# Altium integrated library HyTechDevices.Library.IntLib: 220 symbols (part 2 of 3)
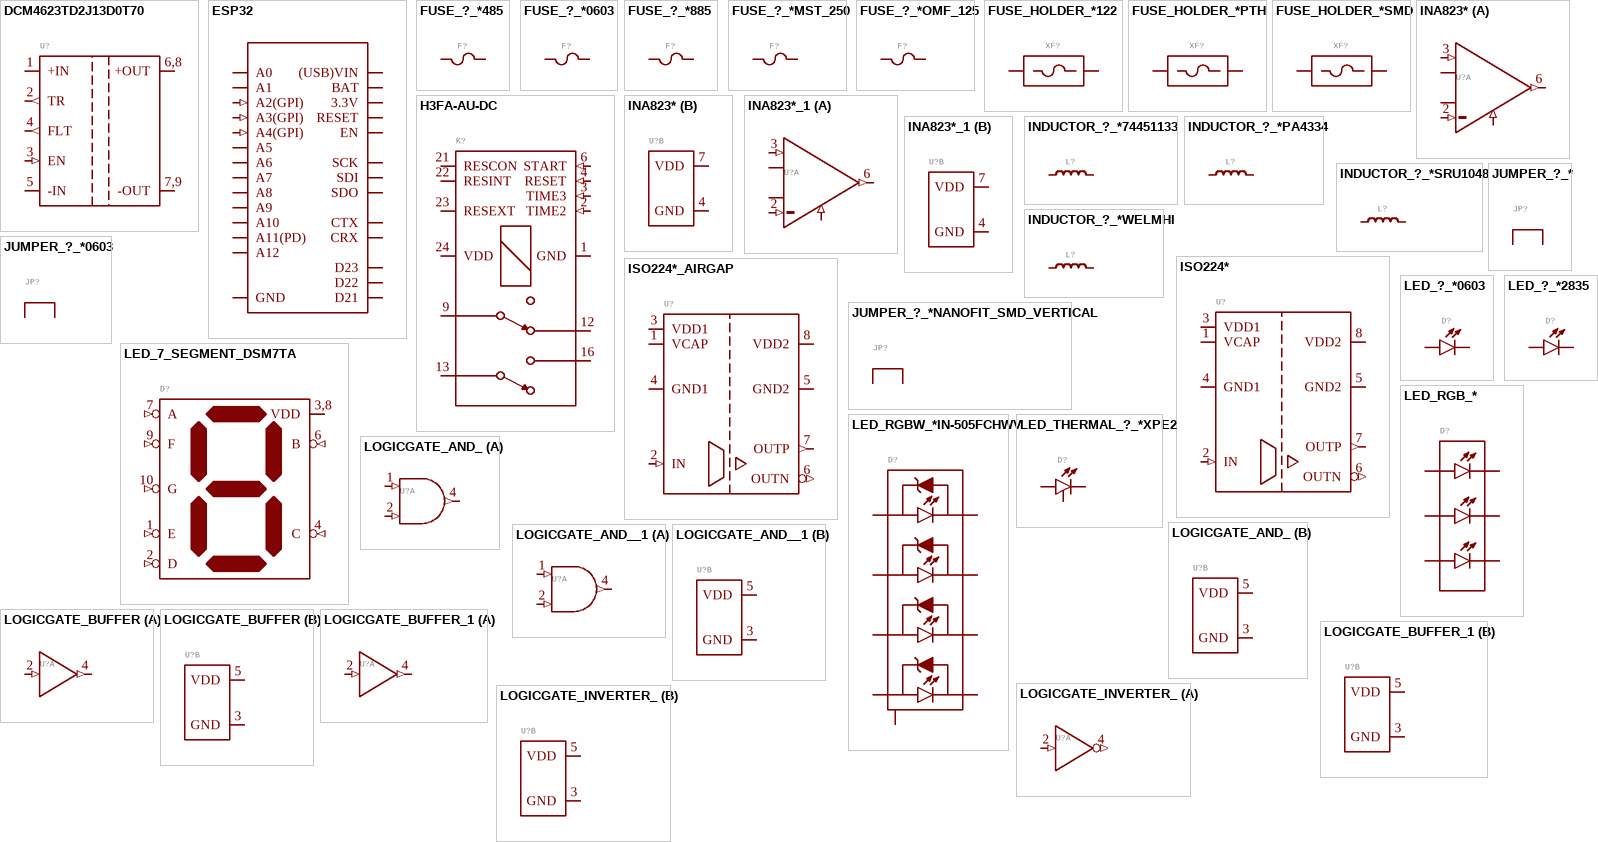
[diagram p8: symbols DCM4623TD2J13D0T70 to LOGICGATE_INVERTER_]

## LED_RGB_*
designator D?, comment Broadcom ASMG-PT00-00001 RGB LED   Datasheet< /a>  (value not drawn)
MANUFACTURER: Broadcom Limited; GateName_1: G$1; SymbolName_1: DIODE_LED_RGB; DeviceSetName: LED_RGB_*; DKPN: 516-4178-2-ND; MOPN: 630-ASMG-PT00-00001; LibraryName: HyTechDevices; Package: ASMG-PT00-00001; COLOR: RGB; MPN: ASMG-PT00-00001
footprint ASMG-PT00-00001
pins: 1 RED-, 2 GREEN-, 3 BLUE-, 4,THERMAL RED+, 5 GREEN+, 6 BLUE+

## LED_RGBW_*IN-505FCHWV
designator D?, comment Inolux IN-505FCHWV RGBW LED   Datasheet< /a>  (value not drawn)
GateName_1: G$1; SymbolName_1: DIODE_LED_RGBW; DeviceSetName: LED_RGBW_*; DKPN: 1830-1097-2-ND; MOPN: 743-IN-505FCHWV; DeviceName: IN-505FCHWV; LibraryName: HyTechDevices; Package: IN-505FCHWV; COLOR: RGBW; MANUFACTURER: INOLUX; MPN: IN-505FCHWV
footprint IN-505FCHWV
pins: A+ RED+, A- RED-, B+ GREEN+, B- GREEN-, C+ BLUE+, C- BLUE-, D+ WHITE+, D- WHITE-, THERMAL

## LED_THERMAL_?_*XPE2
designator D?, comment LED with Thermal Pad  Cree XP-E2 Datasheet  (value not drawn)
MANUFACTURER: Cree Inc.; MPN: XPEBBL-L1-0000-00305; MPN: XPEBGR-L1-0000-00F02; MPN: XPEBRD-L1-0000-00902; MPN: XPEBAM-L1-0000-00903; GateName_1: G$1; SymbolName_1: DIODE_LED_THERMAL; DeviceName: XPE2; DeviceSetName: LED_THERMAL_?_*; COLOR: Blue; DKPN: XPEBBL-L1-0000-00305CT-ND; MOPN: 941-XPEBBLL10000305; COLOR: Green; DKPN: XPEBGR-L1-0000-00F02CT-ND; MOPN: 941-XPEBGRL10000F02; COLOR: Red; DKPN: XPEBRD-L1-0000-00902CT-ND; MOPN: 941-XPEBRDL100000902; COLOR: Yellow; DKPN: XPEBAM-L1-0000-00903CT-ND; MOPN: 941-XPEBAML10000903; LibraryName: HyTechDevices; Package: XP-E2
footprint XP-E2
pins: ANODE A, CATHODE C, X THERMAL

## LOGICGATE_AND_
designator U?, comment AND Gate  SN74LVC Datasheet  (value not drawn)
MANUFACTURER: Texas Instruments; MPN: SN74LVC1G08DCK3; MPN: SN74LVC1G08DCKR; GateName_1: A; SymbolName_1: LOGICGATE_AND; GateName_2: P; SymbolName_2: PWR_GND; DeviceSetName: LOGICGATE_AND_; DKPN: 296-SN74LVC1G08DCK3TR-ND; MOPN: 595-SN74LVC1G08DCK3; DKPN: 296-11602-2-ND; MOPN: 595-SN74LVC1G08DCKR; LibraryName: HyTechDevices; Package: SC-70-5
footprint SC-70-5
part A pins: 1 IN1 (in), 2 IN2 (in), 4 OUT (out)
part B pins: 3 GND (power), 5 VDD (power)

## LOGICGATE_AND__1
designator U?, comment AND Gate  SN74LVC Datasheet  (value not drawn)
MANUFACTURER: Texas Instruments; MPN: SN74LVC1G08DCK3; MPN: SN74LVC1G08DCKR; GateName_1: A; SymbolName_1: LOGICGATE_AND; GateName_2: P; SymbolName_2: PWR_GND; DeviceSetName: LOGICGATE_AND_; DKPN: 296-SN74LVC1G08DCK3TR-ND; MOPN: 595-SN74LVC1G08DCK3; DKPN: 296-11602-2-ND; MOPN: 595-SN74LVC1G08DCKR; LibraryName: HyTechDevices; Package: SC-70-5
footprint SC-70-5
part A pins: 1 IN1 (in), 2 IN2 (in), 4 OUT (out)
part B pins: 3 GND (power), 5 VDD (power)

## LOGICGATE_BUFFER
designator U?, comment Buffer  SN74LVC Datasheet  (value not drawn)
MANUFACTURER: Texas Instruments; MPN: SN74LVC1G34DCKT; GateName_1: A; SymbolName_1: LOGICGATE_BUFFER; GateName_2: P; SymbolName_2: PWR_GND; DKPN: 296-26604-2-ND; MOPN: 595-SN74LVC1G34DCKT; LibraryName: HyTechDevices; DeviceSetName: LOGICGATE_BUFFER; Package: SC-70-5
footprint SC-70-5
part A pins: 2 IN (in), 4 OUT (out)
part B pins: 3 GND (power), 5 VDD (power)

## LOGICGATE_BUFFER_1
designator U?, comment Buffer  SN74LVC Datasheet  (value not drawn)
MANUFACTURER: Texas Instruments; MPN: SN74LVC1G34DCKT; GateName_1: A; SymbolName_1: LOGICGATE_BUFFER; GateName_2: P; SymbolName_2: PWR_GND; DKPN: 296-26604-2-ND; MOPN: 595-SN74LVC1G34DCKT; LibraryName: HyTechDevices; DeviceSetName: LOGICGATE_BUFFER; Package: SC-70-5
footprint SC-70-5
part A pins: 2 IN (in), 4 OUT (out)
part B pins: 3 GND (power), 5 VDD (power)

## LOGICGATE_INVERTER_
designator U?, comment Inverter  SN74LVC Datasheet  (value not drawn)
MANUFACTURER: Texas Instruments; MPN: SN74LVC1G04DCK3; MPN: SN74LVC1G04DCKR; GateName_1: A; SymbolName_1: LOGICGATE_INVERTER; GateName_2: P; SymbolName_2: PWR_GND; DeviceSetName: LOGICGATE_INVERTER_; DKPN: 296-SN74LVC1G04DCK3TR-ND; MOPN: 595-SN74LVC1G04DCK3; DKPN: 2156-SN74LVC1G04DCKR-ND; MOPN: 595-SN74LVC1G04DCKR; LibraryName: HyTechDevices; Package: SC-70-5
footprint SC-70-5
part A pins: 2 IN (in), 4 !IN (out)
part B pins: 3 GND (power), 5 VDD (power)

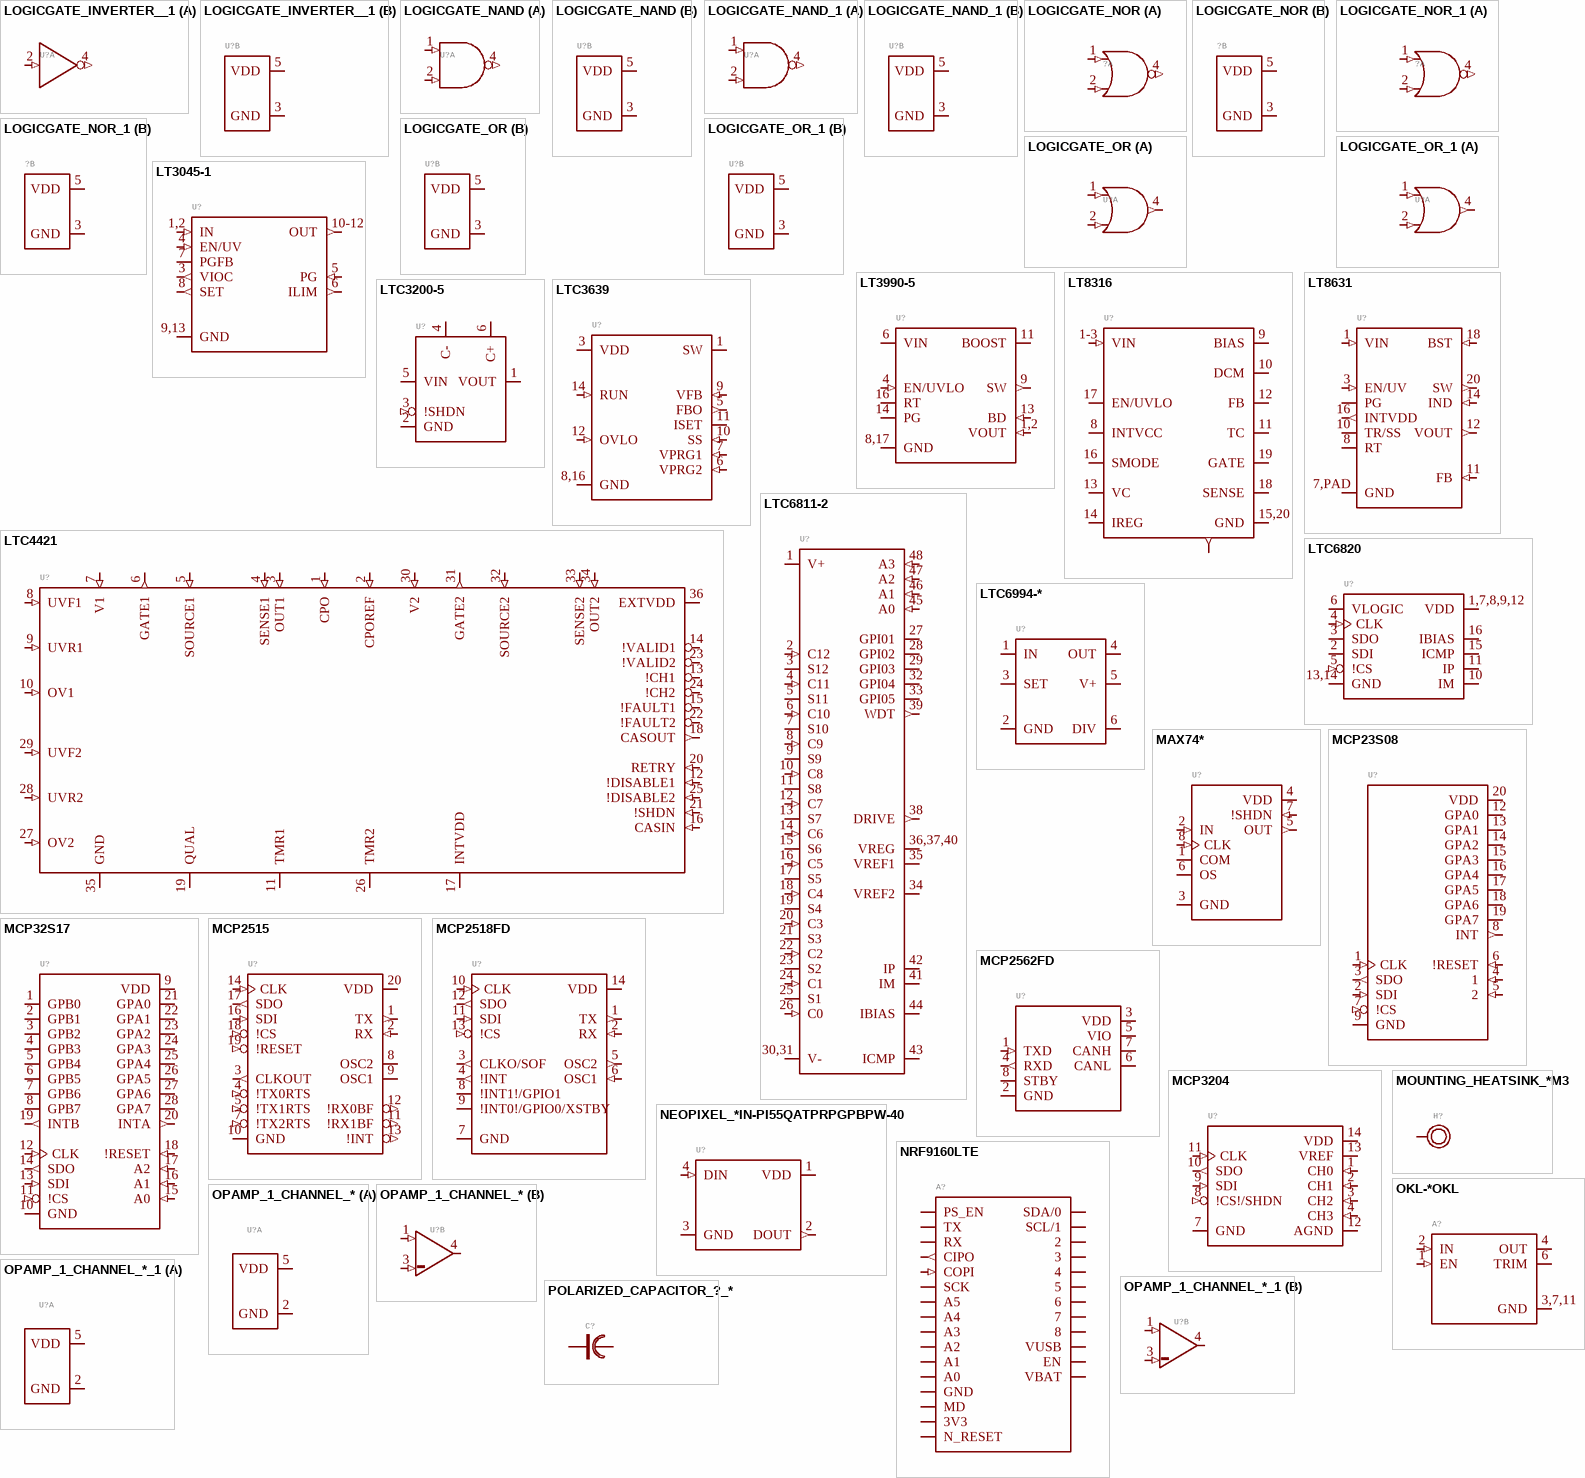
[diagram p3: symbols LOGICGATE_INVERTER__1 to POLARIZED_CAPACITOR_?_*]

## LOGICGATE_INVERTER__1
designator U?, comment Inverter  SN74LVC Datasheet  (value not drawn)
MANUFACTURER: Texas Instruments; MPN: SN74LVC1G04DCK3; MPN: SN74LVC1G04DCKR; GateName_1: A; SymbolName_1: LOGICGATE_INVERTER; GateName_2: P; SymbolName_2: PWR_GND; DeviceSetName: LOGICGATE_INVERTER_; DKPN: 296-SN74LVC1G04DCK3TR-ND; MOPN: 595-SN74LVC1G04DCK3; DKPN: 2156-SN74LVC1G04DCKR-ND; MOPN: 595-SN74LVC1G04DCKR; LibraryName: HyTechDevices; Package: SC-70-5
footprint SC-70-5
part A pins: 2 IN (in), 4 !IN (out)
part B pins: 3 GND (power), 5 VDD (power)

## LOGICGATE_NAND
designator U?, comment NAND Gate  SN74LVC Datasheet  (value not drawn)
MANUFACTURER: Texas Instruments; MPN: SN74LVC1G00MDCKREP; GateName_1: A; SymbolName_1: LOGICGATE_NAND; GateName_2: P; SymbolName_2: PWR_GND; DKPN: 296-22339-2-ND; MOPN: 595-SN74LVC00MDCKREP; LibraryName: HyTechDevices; DeviceSetName: LOGICGATE_NAND; Package: SC-70-5
footprint SC-70-5
part A pins: 1 IN1 (in), 2 IN2 (in), 4 OUT (out)
part B pins: 3 GND (power), 5 VDD (power)

## LOGICGATE_NAND_1
designator U?, comment NAND Gate  SN74LVC Datasheet  (value not drawn)
MANUFACTURER: Texas Instruments; MPN: SN74LVC1G00MDCKREP; GateName_1: A; SymbolName_1: LOGICGATE_NAND; GateName_2: P; SymbolName_2: PWR_GND; DKPN: 296-22339-2-ND; MOPN: 595-SN74LVC00MDCKREP; LibraryName: HyTechDevices; DeviceSetName: LOGICGATE_NAND; Package: SC-70-5
footprint SC-70-5
part A pins: 1 IN1 (in), 2 IN2 (in), 4 OUT (out)
part B pins: 3 GND (power), 5 VDD (power)

## LOGICGATE_NOR
designator ?, comment NOR Gate  SN74LVC Datasheet  (value not drawn)
MANUFACTURER: Texas Instruments; MPN: SN74LVC1G02DCKR; GateName_1: A; SymbolName_1: LOGICGATE_NOR; GateName_2: P; SymbolName_2: PWR_GND; DKPN: 296-11598-1-ND; MOPN: 595-SN74LVC1G02DCKR; LibraryName: HyTechDevices; DeviceSetName: LOGICGATE_NOR; Package: SC-70-5
footprint SC-70-5
part A pins: 1 IN1 (in), 2 IN2 (in), 4 OUT (out)
part B pins: 3 GND (power), 5 VDD (power)

## LOGICGATE_NOR_1
designator ?, comment NOR Gate  SN74LVC Datasheet  (value not drawn)
MANUFACTURER: Texas Instruments; MPN: SN74LVC1G02DCKR; GateName_1: A; SymbolName_1: LOGICGATE_NOR; GateName_2: P; SymbolName_2: PWR_GND; DKPN: 296-11598-1-ND; MOPN: 595-SN74LVC1G02DCKR; LibraryName: HyTechDevices; DeviceSetName: LOGICGATE_NOR; Package: SC-70-5
footprint SC-70-5
part A pins: 1 IN1 (in), 2 IN2 (in), 4 OUT (out)
part B pins: 3 GND (power), 5 VDD (power)

## LOGICGATE_OR
designator U?, comment OR Gate  SN74LVC Datasheet  (value not drawn)
MANUFACTURER: Texas Instruments; MPN: SN74LVC1G32IDCKREP; GateName_1: A; SymbolName_1: LOGICGATE_OR; GateName_2: P; SymbolName_2: PWR_GND; DKPN: 296-22348-2-ND; MOPN: 595-SN74LVC32IDCKREP; LibraryName: HyTechDevices; DeviceSetName: LOGICGATE_OR; Package: SC-70-5
footprint SC-70-5
part A pins: 1 IN1 (in), 2 IN2 (in), 4 OUT (out)
part B pins: 3 GND (power), 5 VDD (power)

## LOGICGATE_OR_1
designator U?, comment OR Gate  SN74LVC Datasheet  (value not drawn)
MANUFACTURER: Texas Instruments; MPN: SN74LVC1G32IDCKREP; GateName_1: A; SymbolName_1: LOGICGATE_OR; GateName_2: P; SymbolName_2: PWR_GND; DKPN: 296-22348-2-ND; MOPN: 595-SN74LVC32IDCKREP; LibraryName: HyTechDevices; DeviceSetName: LOGICGATE_OR; Package: SC-70-5
footprint SC-70-5
part A pins: 1 IN1 (in), 2 IN2 (in), 4 OUT (out)
part B pins: 3 GND (power), 5 VDD (power)

## LT3045-1
designator U?, comment LT3045-1 Linear Regulator with VIOC Control  Datasheet  (value not drawn)
MANUFACTURER: Analog Devices Inc.; MPN: LT3045EMSE-1#PBF; GateName_1: G$1; DKPN: LT3045EMSE-1#PBF-ND; MOPN: 584-LT3045EMSE-1#PBF; SymbolName_1: LT3045-1; LibraryName: HyTechDevices; DeviceSetName: LT3045-1; Package: MSE12
footprint MSE12
pins: 1,2 IN (in), 3 VIOC (out), 4 EN/UV (in), 5 PG (in), 6 ILIM (out), 7 PGFB (oc), 8 SET (out), 9,13 GND (power), 10-12 OUT (out)

## LT3990-5
designator U?, comment LT3990-5 DC-DC Regulator  Datasheet  (value not drawn)
MANUFACTURER: Analog Devices Inc.; MPN: LT3990EMSE-5#PBF; GateName_1: G$1; DKPN: LT3990EMSE-5#PBF-ND; MOPN: 584-LT3990EMSE-5#PBF; SymbolName_1: LT3990-5; LibraryName: HyTechDevices; DeviceSetName: LT3990-5; Package: MSE16
footprint MSE16
pins: 1,2 VOUT (in), 4 EN/UVLO (in), 6 VIN (power), 8,17 GND (power), 9 SW (out), 11 BOOST, 13 BD (in), 14 PG, 16 RT

## LT8316
designator U?, comment LT8316 560VIN Micropower No-Opto Isolated Flyback Controller  Datasheet  (value not drawn)
MANUFACTURER: Analog Devices; MPN: LT8316EFE#PBF; GateName_1: G$1; DKPN: 505-LT8316EFE#PBF-ND; MOPN: 584-LT8316EFE#PBF; SymbolName_1: LT8316; LibraryName: HyTechDevices; DeviceSetName: LT8316; Package: TSSOP-20(16)
footprint TSSOP-20(16)
pins: 1-3 VIN (in), 8 INTVCC (io), 9 BIAS (io), 10 DCM (io), 11 TC (io), 12 FB (io), 13 VC (io), 14 IREG (io), 15,20 GND (io), 16 SMODE (io), 17 EN/UVLO (io), 18 SENSE (io), 19 GATE (io), THERMAL P$1 (out)

## LT8631
designator U?, comment LT8631 100V, 1A DC-DC Regulator  Datasheet  (value not drawn)
MANUFACTURER: Analog Devices Inc.; MPN: LT8631EFE#TRPBF; GateName_1: G$1; DKPN: LT8631EFE#TRPBFCT-ND; MOPN: 584-LT8631EFE#PBF; SymbolName_1: LT8631; LibraryName: HyTechDevices; DeviceSetName: LT8631; Package: FE20(16)
footprint FE20(16)
pins: 1 VIN (in), 3 EN/UV (in), 7,PAD GND (power), 8 RT, 10 TR/SS, 11 FB (in), 12 VOUT (out), 14 IND (in), 16 INTVDD (out), 18 BST (in), 20 SW (out), ?1 PG (oc)

## LTC3200-5
designator U?, comment LTC3200-5 Low Noise, Charge Pump DC-DC Regulator  Datasheet Produces a regulated output voltage from a 2.7V to 4.5V input with up to 100mA of output current   *Notes:  - Flying capacitors connected to pins 4 (C-) and 6 (C+) must have at least 0.68 uF of capacitance in order to achieve the rated output current  - Pins 1 (Vin) and 5 (Vout) both need to be bypassed with capacitors with capacitance >=0.47 uF  - Pins 5 (Vout) and 3 (!SHDN) should have connected inputs  (value not drawn)
MANUFACTURER: Analog Devices Inc.; MPN: LTC3200ES6-5#TRPBF; GateName_1: G$1; DKPN: LTC3200ES6-5#TRPBFTR-ND; MOPN: 584-C3200ES6-5TRPBF; SymbolName_1: LTC3200-5; LibraryName: HyTechDevices; DeviceSetName: LTC3200-5; Package: SOT-23-6
footprint SOT-23-6
pins: 1 VOUT (power), 2 GND (power), 3 !SHDN (in), 4 C- (io), 5 VIN (power), 6 C+ (io)

## LTC3639
designator U?, comment LTC3639 DC-DC Regulator  Datasheet  (value not drawn)
MANUFACTURER: Analog Devices Inc.; MPN: LTC3639EMSE#TRPBF; GateName_1: G$1; DKPN: LTC3639EMSE#TRPBFTR-ND; MOPN: 584-LTC3639EMSETRPBF; SymbolName_1: LTC3639; LibraryName: HyTechDevices; DeviceSetName: LTC3639; Package: MSE16(12)
footprint MSE16(12)
pins: 1 SW (power), 3 VDD (power), 5 FBO (out), 6 VPRG2 (in), 7 VPRG1 (in), 8,16 GND (power), 9 VFB (in), 10 SS (in), 11 ISET (io), 12 OVLO (in), 14 RUN (in)

## LTC4421
designator U?, comment LTC4421 Dual Supply Prioritizer  Datasheet  (value not drawn)
MANUFACTURER: Analog Devices Inc.; MPN: LTC4421CG#PBF; GateName_1: G$1; DKPN: 161-LTC4421CG#PBF-ND; MOPN: 584-LTC4421CG#PBF; SymbolName_1: LTC4421; LibraryName: HyTechDevices; DeviceSetName: LTC4421; Package: SSOP-36
footprint SSOP-36
pins: 1 CPO (in), 2 CPOREF (in), 3 OUT1 (in), 4 SENSE1 (in), 5 SOURCE1 (in), 6 GATE1 (out), 7 V1 (in), 8 UVF1 (in), 9 UVR1 (in), 10 OV1 (in), 11 TMR1 (io), 12 !DISABLE1 (in), 13 !CH1 (oc), 14 !VALID1 (oc), 15 !FAULT1 (oc), 16 CASIN (in), 17 INTVDD (power), 18 CASOUT (out), 19 QUAL (io), 20 RETRY (in), 21 !SHDN (in), 22 !FAULT2 (oc), 23 !VALID2 (oc), 24 !CH2 (oc), 25 !DISABLE2 (in), 26 TMR2 (io), 27 OV2 (in), 28 UVR2 (in), 29 UVF2 (in), 30 V2 (in), 31 GATE2 (out), 32 SOURCE2 (in), 33 SENSE2 (in), 34 OUT2 (in), 35 GND (power), 36 EXTVDD (power)

## LTC6811-2
designator U?, comment LTC6811-2 12 Cell Stackable Battery Monitor  Datasheet  (value not drawn)
MANUFACTURER: Analog Devices Inc.; MPN: LTC6811IG-2#3ZZPBF; GateName_1: G$1; DKPN: LTC6811IG-2#3ZZPBF-ND; MOPN: 584-6811IG-2#3ZZPB; SymbolName_1: LTC6811-2; LibraryName: HyTechDevices; DeviceSetName: LTC6811-2; Package: SSOP-48
footprint SSOP-48
pins: 1 V+ (power), 2 C12 (in), 3 S12 (io), 4 C11 (in), 5 S11 (io), 6 C10 (in), 7 S10 (io), 8 C9 (in), 9 S9 (io), 10 C8 (in), 11 S8 (io), 12 C7 (in), 13 S7 (io), 14 C6 (in), 15 S6 (io), 16 C5 (in), 17 S5 (io), 18 C4 (in), 19 S4 (io), 20 C3 (in), 21 S3 (io), 22 C2 (in), 23 S2 (io), 24 C1 (in), 25 S1 (io), 26 C0 (in), 27 GPI01 (io), 28 GPI02 (io), 29 GPI03 (io), 30,31 V- (power), 32 GPI04 (io), 33 GPI05 (io), 34 VREF2 (power), 35 VREF1 (power), 36,37,40 VREG (power), 38 DRIVE (out), 39 WDT (out), 41 IM (io), 42 IP (io), 43 ICMP (io), 44 IBIAS (io), 45 A0 (in), 46 A1 (in), 47 A2 (in), 48 A3 (in)

## LTC6820
designator U?, comment LTC6820 isoSPI Isolated Communications Interface  Datasheet  (value not drawn)
MANUFACTURER: Analog Devices; MPN: LTC6820IMS#PBF; GateName_1: G$1; SymbolName_1: LTC6820; LibraryName: HyTechDevices; DeviceSetName: LTC6820; Package: MSOP-16
footprint MSOP-16
pins: 1,7,8,9,12 VDD (power), 2 SDI (oc), 3 SDO (oc), 4 CLK (in), 5 !CS (in), 6 VLOGIC (io), 10 IM (io), 11 IP (io), 13,14 GND (power), 15 ICMP (io), 16 IBIAS (io)

## LTC6994-*
designator U?, comment Analog Devices Inc Delay IC  1us to 33.6s  Datasheet  (value not drawn)
MANUFACTURER: Analog Devices Incorporated; MPN: LTC6994CS6-1#TRMPBF; GateName_1: G$1; SymbolName_1: LTC6994; DeviceSetName: LTC6994-*; DKPN: 505-LTC6994CS6-1#TRMPBFTR-ND; MOPN: 584-C6994CS6-1TRMPBF; LibraryName: HyTechDevices; Package: SOT-23-6
footprint SOT-23-6
pins: 1 IN (io), 2 GND (power), 3 SET (io), 4 OUT (io), 5 V+ (power), 6 DIV (io)

## MAX74*
designator U?, comment 8th-Order Maxim Filter  MAX7480 Datasheet MAX7400 Datsheet Recommended clock capacitor for the MAX7400/MAX7404:  885012006013  (value not drawn)
MANUFACTURER: Maxim Integrated; MPN: MAX7400CSA+; MPN: MAX7404CSA+; GateName_1: G$1; SymbolName_1: MAX74XX; DeviceSetName: MAX74*; DKPN: MAX7400CSA+-ND; MOPN: 700-MAX7400CSA; DKPN: MAX7404CSA+-ND; MOPN: 700-MAX7404CSA; LibraryName: HyTechDevices; Package: SOIC-08(NARROW,0.15")
footprint SOIC-08(NARROW,0.15")
pins: 1 COM (io), 2 IN (in), 3 GND (power), 4 VDD (power), 5 OUT (out), 6 OS (io), 7 !SHDN (in), 8 CLK (in)

## MCP23S08
designator U?, comment IO Expander 8 Channel  Datasheet  (value not drawn)
MANUFACTURER: Microchip Technology; MPN: MCP23S08-E/SS; GateName_1: G$1; SymbolName_1: MCP23S08; DKPN: MCP23S08-E/SS-ND; MOPN: 579-MCP23S08-E/SS; LibraryName: HyTechDevices; DeviceSetName: MCP23S08; Package: SSOP-20
footprint SSOP-20
pins: 1 CLK (in), 2 SDI (in), 3 SDO (out), 4 1 (in), 5 2 (in), 6 !RESET (in), 7 !CS (in), 8 INT (out), 9 GND (power), 12 GPA0 (io), 13 GPA1 (io), 14 GPA2 (io), 15 GPA3 (io), 16 GPA4 (io), 17 GPA5 (io), 18 GPA6 (io), 19 GPA7 (io), 20 VDD (power)

## MCP32S17
designator U?, comment IO Expander 16 Channel  Datasheet  (value not drawn)
MANUFACTURER: Microchip Technology; MPN: MCP23S17T-E/SS; GateName_1: G$1; SymbolName_1: MCP23S17; DeviceSetName: MCP32S17; DKPN: MCP23S17T-E/SSCT-ND; MOPN: 579-MCP23S17T-E/SS; LibraryName: HyTechDevices; Package: SSOP-28
footprint SSOP-28
pins: 1 GPB0 (io), 2 GPB1 (io), 3 GPB2 (io), 4 GPB3 (io), 5 GPB4 (io), 6 GPB5 (io), 7 GPB6 (io), 8 GPB7 (io), 9 VDD (power), 10 GND (power), 11 !CS (in), 12 CLK (in), 13 SDI (in), 14 SDO (out), 15 A0 (in), 16 A1 (in), 17 A2 (in), 18 !RESET (in), 19 INTB (out), 20 INTA (out), 21 GPA0 (io), 22 GPA1 (io), 23 GPA2 (io), 24 GPA3 (io), 25 GPA4 (io), 26 GPA5 (io), 27 GPA6 (io), 28 GPA7 (io)

## MCP2515
designator U?, comment MCP2515 Can Controller  Datasheet  (value not drawn)
MANUFACTURER: Microchip Technology; MPN: MCP2515-E/ST; GateName_1: G$1; DKPN: MCP2515-E/ST-ND; MOPN: 579-MCP2515-E/ST; SymbolName_1: MCP2515; LibraryName: HyTechDevices; DeviceSetName: MCP2515; Package: TSSOP-20
footprint TSSOP-20
pins: 1 TX (out), 2 RX (in), 3 CLKOUT (out), 4 !TX0RTS (in), 5 !TX1RTS (in), 7 !TX2RTS (in), 8 OSC2 (io), 9 OSC1 (io), 10 GND (power), 11 !RX1BF (out), 12 !RX0BF (out), 13 !INT (out), 14 CLK (in), 16 SDI (in), 17 SDO (out), 18 !CS (in), 19 !RESET (in), 20 VDD (power)

## MCP2518FD
designator U?, comment MCP2518FD Can Controller  Datasheet  (value not drawn)
MANUFACTURER: Microchip Technology; MPN: MCP2518FDT-E/SL; GateName_1: G$1; DKPN: MCP2518FDT-E/SLCT-ND; MOPN: 579-MCP2518FDT-E/SL; SymbolName_1: MCP2518FD; LibraryName: HyTechDevices; DeviceSetName: MCP2518FD; Package: SOIC-14
footprint SOIC-14
pins: 1 TX (out), 2 RX (in), 3 CLKO/SOF (out), 4 !INT (out), 5 OSC2 (out), 6 OSC1 (in), 7 GND (power), 8 !INT1!/GPIO1 (io), 9 !INT0!/GPIO0/XSTBY (io), 10 CLK (in), 11 SDI (in), 12 SDO (out), 13 !CS (in), 14 VDD (power)

## MCP2562FD
designator U?, comment MCP2562FD Can Tranciever  Datasheet  (value not drawn)
ALT_MANUFACTURER: Microchip Technology; ALT_MPN: MCP2562-E/SN; MPN: MCP2562FD-E/SN; GateName_1: G$1; SymbolName_1: CAN_TRANSCIEVER_MCP2562FD; ALT_DKPN: MCP2562-E/SN-ND; ALT_MOPN: 579-MCP2562-E/SN; DKPN: MCP2562FD-E/SN-ND; MOPN: 579-MCP2562FD-E/SN; LibraryName: HyTechDevices; DeviceSetName: MCP2562FD; Package: SOIC-08(NARROW,0.15"); MANUFACTURER: Microchip Technology
footprint SOIC-08(NARROW,0.15")
pins: 1 TXD (in), 2 GND (power), 3 VDD (power), 4 RXD (out), 5 VIO (power), 6 CANL (io), 7 CANH (io), 8 STBY

## MCP3204
designator U?, comment MCP3204 4-Channel ADC  Datasheet  (value not drawn)
MANUFACTURER: Microchip Technology; MPN: MCP3204-BI/SL; GateName_1: G$1; DKPN: MCP3204-BI/SL-ND; MOPN: 579-MCP3204-BI/SL; SymbolName_1: MCP3204; LibraryName: HyTechDevices; DeviceSetName: MCP3204; Package: SOIC-14
footprint SOIC-14
pins: 1 CH0 (in), 2 CH1 (in), 3 CH2 (in), 4 CH3 (in), 7 GND (power), 8 !CS!/SHDN (in), 9 SDI (in), 10 SDO (out), 11 CLK (in), 12 AGND (power), 13 VREF (power), 14 VDD (power)

## MOUNTING_HEATSINK_*M3
designator H?, comment M3 Mounting Hole  Datasheet  (value not drawn)
GateName_1: G$1; SymbolName_1: MOUNTING_HEATSINK; DeviceSetName: MOUNTING_HEATSINK_*; DeviceName: M3; LibraryName: HyTechDevices; Package: MOUNTING_M3
footprint MOUNTING_M3
pins: 1

## NEOPIXEL_*IN-PI55QATPRPGPBPW-40
designator U?, comment IN-PI55QATPRPGPBPW-40  Neopixel RGBW LED  Datasheet  (value not drawn)
MANUFACTURER: Inolux; GateName_1: G$1; DeviceSetName: NEOPIXEL_*; DKPN: 1830-1210-2-ND; MOPN: 743-I55QATPRPGPBPW40; SymbolName_1: NEOPIXEL; DeviceName: IN-PI55QATPRPGPBPW-40; LibraryName: HyTechDevices; Package: NEOPIXEL; MPN: IN-PI55QATPRPGPBPW-40
footprint NEOPIXEL
pins: 1 VDD (power), 2 DOUT (out), 3 GND (power), 4 DIN (in)

## NRF9160LTE
designator A?, comment SparkFun Thing Plus - nRF9160 LTE module  Datasheet Sparkfun link  (value not drawn)
MANUFACTURER: SparkFun Electronics; MPN: WRL-17354; GateName_1: G$1; DKPN: 1568-WRL-17354-ND; MOPN: 474-WRL-17354; SymbolName_1: NRF9160; LibraryName: HyTechDevices; DeviceSetName: NRF9160LTE; Package: NRF9160LTE
footprint NRF9160LTE
pins: 2 (io), 3 (io), 3V3 (power), 4 (io), 5 (io), 6 (io), 7 (io), 8 (io), A0 (io), A1 (io), A2 (io), A3 (io), A4 (io), A5 (io), CIPO (out), COPI (in), EN (io), GND (power), MD (io), PS-EN PS_EN (io), RESET N_RESET (io), RX (io), SCK (io), SCL/1 (io), SDA/0 (io), TX (io), VBAT (power), VUSB (io)

## OKL-*OKL
designator A?, comment Point of Load Voltage Regulator Modules  OKL-T/1-W12 Datasheet  (value not drawn)
MANUFACTURER: Murata Power Solutions Inc.; MPN: OKL-T/1-W12N-C; GateName_1: G$1; SymbolName_1: VOLTAGE_REGULATOR_TRIM; DeviceName: OKL; DeviceSetName: OKL-*; DKPN: 811-2260-2-ND; MOPN: 580-OKL-T/1-W12N-C; VIN: 12V; VOUT: 5V; LibraryName: HyTechDevices; Package: OKL-T/1-W12
footprint OKL-T/1-W12
pins: 1 EN (in), 2 IN (in), 3,7,11 GND (power), 4 OUT (power), 6 TRIM

## OPAMP_1_CHANNEL_*
designator U?, comment Op-Amp 1 Channel  OPA991 Datasheet Note: OPA991 is also a comparator  (value not drawn)
MANUFACTURER: Texas Instruments; MPN: OPA991IDCKR; GateName_1: P; SymbolName_1: PWR_GND; SymbolName_2: OPAMP; DeviceSetName: OPAMP_1_CHANNEL_*; DKPN: 296-OPA991IDCKRCT-ND; MOPN: 595-OPA991IDCKR; GateName_2: A; LibraryName: HyTechDevices; Package: SC-70-5
footprint SC-70-5
part A pins: 2 GND (power), 5 VDD (power)
part B pins: 1 VIN+ (in), 3 VIN- (in), 4 VOUT (out)

## OPAMP_1_CHANNEL_*_1
designator U?, comment Op-Amp 1 Channel  OPA991 Datasheet Note: OPA991 is also a comparator  (value not drawn)
MANUFACTURER: Texas Instruments; MPN: OPA991IDCKR; GateName_1: P; SymbolName_1: PWR_GND; SymbolName_2: OPAMP; DeviceSetName: OPAMP_1_CHANNEL_*; DKPN: 296-OPA991IDCKRCT-ND; MOPN: 595-OPA991IDCKR; GateName_2: A; LibraryName: HyTechDevices; Package: SC-70-5
footprint SC-70-5
part A pins: 2 GND (power), 5 VDD (power)
part B pins: 1 VIN+ (in), 3 VIN- (in), 4 VOUT (out)

## POLARIZED_CAPACITOR_?_*
designator C?
MANUFACTURER: United Chemi-con; MPN: EKYC250ELL362ML20S; GateName_1: G$1; SymbolName_1: CAPACITOR_POLARIZED; DeviceSetName: POLARIZED_CAPACITOR_?_*; CAPACITANCE: 3600μF; DKPN: 565-EKYC250ELL362ML20S-ND; MOPN: 661-YC250ELL362ML20S; VOLTAGE: 25V; LibraryName: HyTechDevices; Package: EKYC*MM
footprint EKYC*MM
pins: + PLUS, - MINUS

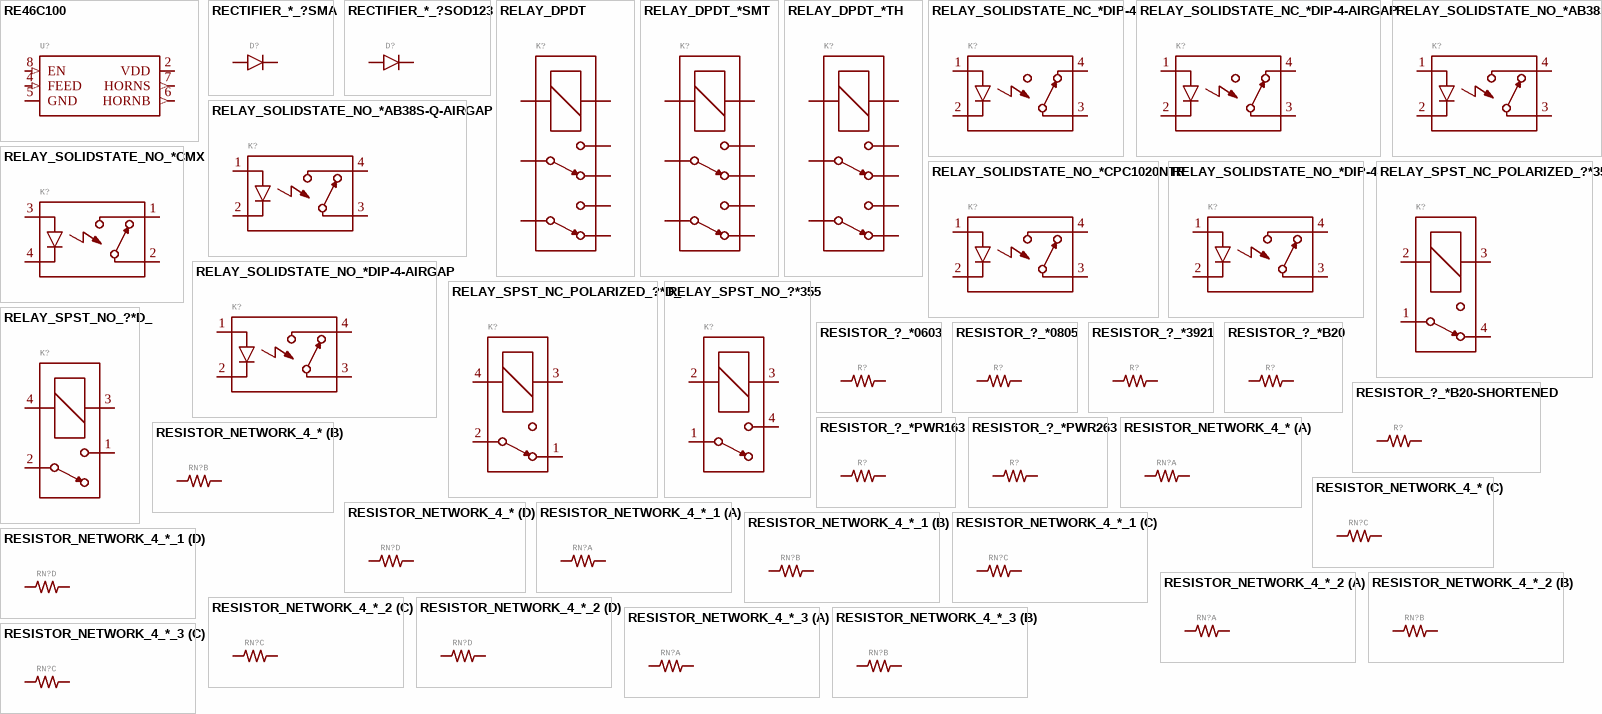
[diagram p4: symbols RE46C100 to RESISTOR_NETWORK_4_*_3]

## RE46C100
designator U?, comment RE46C100 Piezoelectric Horn Driver IC  Datasheet  (value not drawn)
MANUFACTURER: Microchip Technology; MPN: RE46C100S8TF; GateName_1: G$1; DKPN: RE46C100S8TFTR-ND; MOPN: 579-RE46C100S8TF; SymbolName_1: RE46C100; LibraryName: HyTechDevices; DeviceSetName: RE46C100; Package: SOIC-08(NARROW,0.15")
footprint SOIC-08(NARROW,0.15")
pins: 2 VDD (power), 4 FEED (in), 5 GND (power), 6 HORNB (out), 7 HORNS (out), 8 EN (in)

## RECTIFIER_*_?SMA
designator D?, comment Diodes Incorporated US1GWF  Datasheet Diodes Incorporated US1M  Datasheet  (value not drawn)
MPN: US1M-13-F; GateName_1: G$1; SymbolName_1: DIODE-1; DeviceName: SMA; DeviceSetName: RECTIFIER_*_?; CURRENT: 1A; DKPN: US1M-FDITR-ND; MOPN: 621-US1M-F; VOLTAGE: 1000V; LibraryName: HyTechDevices; Package: SMA; MANUFACTURER: Diodes Incorporated
footprint SMA
pins: A, C

## RECTIFIER_*_?SOD123
designator D?, comment Diodes Incorporated US1GWF  Datasheet Diodes Incorporated US1M  Datasheet  (value not drawn)
MPN: US1GWF-7; GateName_1: G$1; SymbolName_1: DIODE-1; DeviceName: SOD123; DeviceSetName: RECTIFIER_*_?; CURRENT: 1A; DKPN: US1GWF-7DITR-ND; MOPN: 621-US1GWF-7; VOLTAGE: 400V; LibraryName: HyTechDevices; Package: SOD123F; MANUFACTURER: Diodes Incorporated
footprint SOD123F
pins: A, C

## RELAY_DPDT
designator K?, comment Dual Pole, Dual Throw Relay  Datasheet  (value not drawn)
MANUFACTURER: TE Connectivity; MPN: RT424009; GateName_1: G$1; SymbolName_1: RELAY_DPDT; DKPN: PB2021-ND; MOPN: 655-6-1393243-2; LibraryName: HyTechDevices; DeviceSetName: RELAY_DPDT; Package: RT*2*
footprint RT*2*
pins: 11 3 (io), 12 2 (io), 14 4 (io), 21 6 (io), 22 7 (io), 24 5 (io), A1 COIL+ (io), A2 COIL- (io)

## RELAY_DPDT_*SMT
designator K?, comment Dual Pole, Dual Throw Relay  Datasheet  (value not drawn)
MANUFACTURER: TE Connectivity; MPN: 3-1462039-7; GateName_1: G$1; SymbolName_1: RELAY_DPDT; DeviceName: SMT; DeviceSetName: RELAY_DPDT_*; DKPN: PB2077CT-ND; MOPN: 655-3-1462039-7; LibraryName: HyTechDevices; Package: IM*G
footprint IM*G
pins: 1 COIL+ (io), 2 (io), 3 (io), 4 (io), 5 (io), 6 (io), 7 (io), 8 COIL- (io)

## RELAY_DPDT_*TH
designator K?, comment Dual Pole, Dual Throw Relay  Datasheet  (value not drawn)
MANUFACTURER: TE Connectivity; MPN: RT424009; MPN: RT424024; GateName_1: G$1; SymbolName_1: RELAY_DPDT; DeviceName: TH; DeviceSetName: RELAY_DPDT_*; DKPN: PB2021-ND; MOPN: 655-6-1393243-2; DKPN: PB969-ND; MOPN: 655-RT424024; LibraryName: HyTechDevices; Package: RT*2*
footprint RT*2*
pins: 11 3 (io), 12 2 (io), 14 4 (io), 21 6 (io), 22 7 (io), 24 5 (io), A1 COIL+ (io), A2 COIL- (io)

## RELAY_SOLIDSTATE_NC_*DIP-4
designator K?, comment Normally Closed Solid-State Relay  Datasheet  (value not drawn)
MANUFACTURER: Panasonic Industrial Devices; MPN: AQY414EHA; GateName_1: G$1; SymbolName_1: RELAY_SOLIDSTATE_NC-1; DeviceName: DIP-4; DeviceSetName: RELAY_SOLIDSTATE_NC_*; DKPN: 255-2897-ND; MOPN: 769-AQY414EHA; LibraryName: HyTechDevices; Package: DIP-4
footprint DIP-4
pins: 1 CONTROL+, 2 CONTROL-, 3 CONTACT1 (io), 4 CONTACT2 (io)

## RELAY_SOLIDSTATE_NC_*DIP-4-AIRGAP
designator K?, comment Normally Closed Solid-State Relay  Datasheet  (value not drawn)
MANUFACTURER: Panasonic Industrial Devices; MPN: AQY414EHA; GateName_1: G$1; SymbolName_1: RELAY_SOLIDSTATE_NC-1; DeviceName: DIP-4-AIRGAP; DeviceSetName: RELAY_SOLIDSTATE_NC_*; DKPN: 255-2897-ND; MOPN: 769-AQY414EHA; LibraryName: HyTechDevices; Package: DIP-4_AIRGAP
footprint DIP-4_AIRGAP
pins: 1 CONTROL+, 2 CONTROL-, 3 CONTACT1 (io), 4 CONTACT2 (io)

## RELAY_SOLIDSTATE_NO_*AB38S-Q
designator K?, comment AQY214EHA Normally Open Solid State Relay  Datasheet  Crydom CMX Series Solid State Normally Open Relay  Datasheet AB38S-Q  Datasheet  CPC1020NTR  Datasheet  (value not drawn)
MANUFACTURER: Comus International; GateName_1: G$1; SymbolName_1: RELAY_SOLIDSTATE_NO-1; DeviceSetName: RELAY_SOLIDSTATE_NO_*; DKPN: 1835-1216-ND; VOLTAGE: 600V; DeviceName: AB38S-Q; LibraryName: HyTechDevices; Package: SOP-04; MPN: AB38S-Q
footprint SOP-04
pins: 1 CONTROL+, 2 CONTROL-, 3 CONTACT1 (io), 4 CONTACT2 (io)

## RELAY_SOLIDSTATE_NO_*AB38S-Q-AIRGAP
designator K?, comment AQY214EHA Normally Open Solid State Relay  Datasheet  Crydom CMX Series Solid State Normally Open Relay  Datasheet AB38S-Q  Datasheet  CPC1020NTR  Datasheet  (value not drawn)
MANUFACTURER: Comus International; GateName_1: G$1; SymbolName_1: RELAY_SOLIDSTATE_NO-1; DeviceName: AB38S-Q-AIRGAP; DeviceSetName: RELAY_SOLIDSTATE_NO_*; DKPN: 1835-1216-ND; VOLTAGE: 600V; LibraryName: HyTechDevices; Package: SOP-04-AIRGAP; MPN: AB38S-Q
footprint SOP-04-AIRGAP
pins: 1 CONTROL+, 2 CONTROL-, 3 CONTACT1 (io), 4 CONTACT2 (io)

## RELAY_SOLIDSTATE_NO_*CMX
designator K?, comment AQY214EHA Normally Open Solid State Relay  Datasheet  Crydom CMX Series Solid State Normally Open Relay  Datasheet AB38S-Q  Datasheet  CPC1020NTR  Datasheet  (value not drawn)
MPN: CMX60D20; GateName_1: G$1; SymbolName_1: RELAY_SOLIDSTATE_NO-1; DeviceSetName: RELAY_SOLIDSTATE_NO_*; DKPN: CC1666-ND; MOPN: 558-CMX60D20; DeviceName: CMX; LibraryName: HyTechDevices; Package: CRYDOM_CMX; MANUFACTURER: Crydom
footprint CRYDOM_CMX
pins: 1 CONTACT2 (io), 2 CONTACT1 (io), 3 CONTROL+, 4 CONTROL-

## RELAY_SOLIDSTATE_NO_*CPC1020NTR
designator K?, comment AQY214EHA Normally Open Solid State Relay  Datasheet  Crydom CMX Series Solid State Normally Open Relay  Datasheet AB38S-Q  Datasheet  CPC1020NTR  Datasheet  (value not drawn)
MANUFACTURER: IXYS Integrated Circuits Division; GateName_1: G$1; SymbolName_1: RELAY_SOLIDSTATE_NO-1; DeviceSetName: RELAY_SOLIDSTATE_NO_*; DKPN: CLA318CT-ND; MOPN: 849-CPC1020NTR; VOLTAGE: 30V; DeviceName: CPC1020NTR; LibraryName: HyTechDevices; Package: SOP-04; MPN: CPC1020NTR
footprint SOP-04
pins: 1 CONTROL+, 2 CONTROL-, 3 CONTACT1 (io), 4 CONTACT2 (io)

## RELAY_SOLIDSTATE_NO_*DIP-4
designator K?, comment AQY214EHA Normally Open Solid State Relay  Datasheet  Crydom CMX Series Solid State Normally Open Relay  Datasheet AB38S-Q  Datasheet  CPC1020NTR  Datasheet  (value not drawn)
MANUFACTURER: Panasonic; GateName_1: G$1; SymbolName_1: RELAY_SOLIDSTATE_NO-1; DeviceName: DIP-4; DeviceSetName: RELAY_SOLIDSTATE_NO_*; DKPN: 255-1436-5-ND; MOPN: 769-AQY214EHA; LibraryName: HyTechDevices; Package: DIP-4; MPN: AQY214EHA
footprint DIP-4
pins: 1 CONTROL+, 2 CONTROL-, 3 CONTACT1 (io), 4 CONTACT2 (io)

## RELAY_SOLIDSTATE_NO_*DIP-4-AIRGAP
designator K?, comment AQY214EHA Normally Open Solid State Relay  Datasheet  Crydom CMX Series Solid State Normally Open Relay  Datasheet AB38S-Q  Datasheet  CPC1020NTR  Datasheet  (value not drawn)
MANUFACTUER: Panasonic; GateName_1: G$1; SymbolName_1: RELAY_SOLIDSTATE_NO-1; DeviceName: DIP-4-AIRGAP; DeviceSetName: RELAY_SOLIDSTATE_NO_*; DKPN: 255-1436-5-ND; MOPN: 769-AQY214EHA; LibraryName: HyTechDevices; Package: DIP-4_AIRGAP; MPN: AQY214EHA
footprint DIP-4_AIRGAP
pins: 1 CONTROL+, 2 CONTROL-, 3 CONTACT1 (io), 4 CONTACT2 (io)

## RELAY_SPST_NC_POLARIZED_?*355
designator K?, comment Single Pole, Single Throw Normally Closed Polarized Relay  355x Series  D Series <\ul>  (value not drawn)
MANUFACTURER: Comus International; MPN: 3350-4275-126; MPN: 3350-4275-246; GateName_1: G$1; SymbolName_1: RELAY_SPST_NC_POLARIZED; DeviceName: 355; DeviceSetName: RELAY_SPST_NC_POLARIZED_?*; DKPN: 1835-1040-ND; DKPN: 1835-1041-ND; LibraryName: HyTechDevices; Package: 335X
footprint 335X
pins: 1 CONTACT1 (io), 2 COIL+ (io), 3 COIL- (io), 4 CONTACT2 (io)

## RELAY_SPST_NC_POLARIZED_?*D_
designator K?, comment Single Pole, Single Throw Normally Closed Polarized Relay  355x Series  D Series <\ul>  (value not drawn)
MANUFACTURER: Sensata-Cynergy3; MPN: DBR71210; MPN: DBR72410; GateName_1: G$1; SymbolName_1: RELAY_SPST_NC_POLARIZED; DeviceName: D_; DeviceSetName: RELAY_SPST_NC_POLARIZED_?*; DKPN: 725-1049-ND; MOPN: 285-DBR71210; DKPN: 725-1050-ND; MOPN: 285-DBR72410; LibraryName: HyTechDevices; Package: D
footprint D
pins: 1 CONTACT2 (io), 2 CONTACT1 (io), 3 COIL- (io), 4 COIL+ (io)

## RELAY_SPST_NO_?*355
designator K?, comment Single Pole, Single Throw Relay Normally Open  355x Series  D Series <\ul>  (value not drawn)
MANUFACTURER: Comus International; MPN: 3350-1275-126; MPN: 3350-1275-246; GateName_1: G$1; SymbolName_1: RELAY_SPST_NO; DeviceName: 355; DeviceSetName: RELAY_SPST_NO_?*; DKPN: 1835-1037-ND; DKPN: 1835-1038-ND; LibraryName: HyTechDevices; Package: 335X
footprint 335X
pins: 1 CONTACT1 (io), 2 COIL+ (io), 3 COIL- (io), 4 CONTACT2 (io)

## RELAY_SPST_NO_?*D_
designator K?, comment Single Pole, Single Throw Relay Normally Open  355x Series  D Series <\ul>  (value not drawn)
MANUFACTURER: Sensata-Cynergy3; MPN: DAR71210; MPN: DAR72410; GateName_1: G$1; SymbolName_1: RELAY_SPST_NO; DeviceName: D_; DeviceSetName: RELAY_SPST_NO_?*; DKPN: 725-1047-ND; MOPN: 285-DAR71210; DKPN: 725-1048-ND; MOPN: 285-DAR72410; LibraryName: HyTechDevices; Package: D
footprint D
pins: 1 CONTACT2 (io), 2 CONTACT1 (io), 3 COIL- (io), 4 COIL+ (io)

## RESISTOR_?_*0603
designator R?, comment Resistor  PWR163 Series  AC Series    PU Series  ERA Series  PWR263 Series  KTR Series  RC Series  ERJ PB3, PB6 Series  ERJ  PA2, P03, PA3, P06, P08, P14 Series  B20 Series  TE Connectivity/Holsworthy RN73 Series  Vishay Dale D/CRCW e3  Ohmite B20  (value not drawn)
MANUFACTURER: Yageo; MPN: RC0603FR-070RL; MANUFACTURER: Panasonic Electronic Components; MPN: ERJ-3BWFR020V; MPN: RL0603FR-070R5L; MPN: ERJ-3EKF1131V; MPN: CRCW06031M13FKEA; MPN: RC0603FR-071K24L; MPN: ERA-3AEB1331V; MPN: RC0603FR-071M5L; MANUFACTURER: TE Conductivity Passive Product; MPN: CPF0603B1R62E1; MPN: RC0603FR-071K65L; MPN: RC0603FR-0710RL; MPN: ERA-3AEB1022V; MPN: ERA-3AEB1052V; MPN: RC0603FR-07100RL; MPN: RC0603FR-07100KL; MPN: ERA-3ARB103V; MPN: ERA-3AEB1132V; MPN: ERA-3AEB1152V; MPN: ERJ-PB3B1242V; MPN: ERA-3AEB121V; MPN: RC0603FR-0712KL; MPN: ERJ-1GNF13R0C; MPN: ERJ-PB3B1332V; MPN: ERA-3ARW133V; MPN: RT0603BRB0714KL; MPN: CRCW060315R0FKEAHP; MPN: ERA-3AEB154V; MPN: ERA-3AEB1543V; MPN: ERA-3ARB153V; MPN: RC0603FR-0717K8L; MPN: RC0603FR-0718K7L; MPN: RC0603FR-07180RL; MANUFACTURER: TE Connectivity Passive Product; MPN: CPF-A-0603B1K0E; MPN: RC0603FR-071ML; MPN: RT0805BRD072K18L; MPN: RC0603FR-072K55L; MPN: ERJ-PB3B2741V; MPN: RC0603FR-0720KL; MPN: ERJ-PB3B2100V; MPN: ERA-3AEB2153V; MPN: RC0603FR-0722RL; MPN: ERA-3AEB2212V; MPN: RC0603FR-07240RL; MANUFACTURER: Panasonic Electronic Company; MPN: ERA-3AEB2553V; MPN: ERJ-UP3F2001V; MPN: ERJ-3RQF3R3V; MPN: RT0603BRD073K32L; MPN: ERJ-PB3D3301V; MPN: RC0603FR-073K9L; MPN: ERJ-PB3B3092V; MPN: ERA-3ARB303V; MPN: ERJ-PB3B3322V; MPN: ERA-3AEB334V; MANUFACTURER: Rohm Semiconductor; MPN: KTR03EZPF3302; MPN: RC0603FR-0736K5L; MPN: RC0603FR-07360RL; MPN: KTR03EZPF3603; MPN: RC0603FR-07374KL; MPN: RT0603BRD0739RL; MPN: ERA-3AEB4121V; MPN: RC0603FR-074K64L; MPN: RC0603FR-07402RL; MPN: ERJ-1GNF41R2C; MPN: ERJ-PB3B4122V; MPN: RC0603FR-0743KL; MPN: ERJ-PA3F4700V; MPN: ERJ-P03J5R1V; MPN: RC0603FR-075K1L; MPN: RN73C1J5R49BTD; MPN: ERJ-PB3D5491V; MPN: ERA-3AEB5901V; MPN: RT0603BRE0750RL; MPN: KTR03EZPF5103; MPN: RC0603FR-0760R4L; MPN: RC0603FR-07620RL; MPN: ERA-3AEB7322V; MPN: RT0603BRE0775KL; MANUFACTURER: Vishay Dale Thin Film; MPN: PTN0603E8351BST1; MPN: RT0603BRD078K66L; MPN: ERA-3AEB8452V; MPN: ERJ-PB3B9312V; MANUFACTURER: Rohm; MPN: KTR03EZPF3301; MPN: KTR03EZPF7502; MPN: KTR03EZPF7503; GateName_1: G$1; DeviceName: 0603; DeviceSetName: RESISTOR_?_*; DKPN: 311-0.0HRCT-ND; MOPN: 603-RC0603FR-070RL; POWER: 0.1W; RESISTANCE: 0; TOLERANCE: 1%; VOLTAGE_CONTINUOUS: 75V; DKPN: P17461CT-ND; MOPN: 667-ERJ-3BWFR020V; POWER: 0.33W; RESISTANCE: 0.02; VOLTAGE_CONTINUOUS: 0.081V; VOLTAGE_MAX: 150V; DKPN: 311-.5QTR-ND; MOPN: 603-RL0603FR070R5L; RESISTANCE: 0.5; VOLTAGE_CONTINUOUS: 0.22V; DKPN: P1.13KHCT-ND; MOPN: 667-ERJ-3EKF1131V; RESISTANCE: 1.13k; DKPN: 541-1.13MHCT-ND; MOPN: 71-CRCW06031M13FKEA; RESISTANCE: 1.13M; VOLTAGE_MAX: 100V; DKPN: 311-1.24KHRCT-ND; MOPN: 603-RC0603FR-071K24L; RESISTANCE: 1.24k; VOLTAGE_CONTINUOUS: 11.14V; DKPN: P1.33KDBCT-ND; MOPN: 667-ERA-3AEB1331V; RESISTANCE: 1.33k; TOLERANCE: 0.1%; VOLTAGE_CONTINUOUS: 11.53V; DKPN: 311-1.50MHRCT-ND; MOPN: 603-RC0603FR-071M5L; RESISTANCE: 1.5M; DKPN: 1712-CPF0603B1R62E1TR-ND; MOPN: 279-CPF0603B1R62E1; RESISTANCE: 1.62; VOLTAGE_CONTINUOUS: 0.51V; VOLTAGE_MAX: 50V; DKPN: 311-1.65KHRCT-ND; MOPN: 603-RC0603FR-071K65L; RESISTANCE: 1.65k; VOLTAGE_CONTINUOUS: 12.85V; DKPN: 311-10.0HRCT-ND; MOPN: 603-RC0603FR-0710RL; RESISTANCE: 10; VOLTAGE_CONTINUOUS: 1.00V; DKPN: P10.2KDBCT-ND; MOPN: 667-ERA-3AEB1022V; RESISTANCE: 10.2k; VOLTAGE_CONTINUOUS: 31.94V; DKPN: P10.5KDBCT-ND; MOPN: 677-ERA-3AEB1052V; RESISTANCE: 10.5k; VOLTAGE_CONTINUOUS: 32.40V; DKPN: 311-100HRCT-ND; MOPN: 603-RC0603FR-07100RL; RESISTANCE: 100; VOLTAGE_CONTINUOUS: 3.16V; DKPN: 311-100KHRTR-ND; MOPN: 603-RC0603FR-07100KL; RESISTANCE: 100k; DKPN: P10KBDCT-ND; MOPN: 667-ERA-3ARB103V; RESISTANCE: 10k; VOLTAGE_CONTINUOUS: 31.62V; DKPN: P11.3KDBCT-ND; MOPN: 667-ERA-3AEB1132V; RESISTANCE: 11.3k; VOLTAGE_CONTINUOUS: 33.62V; DKPN: P11.5KDBCT-ND; MOPN: 667-ERA-3AEB1152V; RESISTANCE: 11.5k; VOLTAGE_CONTINUOUS: 33.91V; DKPN: P20096CT-ND; MOPN: 667-ERJ-PB3B1242V; POWER: 0.2W; RESISTANCE: 12.4k; VOLTAGE_CONTINUOUS: 49.79V; DKPN: P120DBCT-ND; MOPN: 667-ERA-3AEB121V; RESISTANCE: 120; VOLTAGE_CONTINUOUS: 3.46V; DKPN: 311-12.0KHRCT-ND; MOPN: 603-RC0603FR-0712KL; RESISTANCE: 12k; VOLTAGE_CONTINUOUS: 34.64V; DKPN: P122724CT-ND; MOPN: 667-ERJ-1GNF13R0C; POWER: 0.05W; RESISTANCE: 13; VOLTAGE_CONTINUOUS: 25V; DKPN: P20099TR-ND; MOPN: 667-ERJ-PB3B1332V; RESISTANCE: 13.3k; VOLTAGE_CONTINUOUS: 51.58V; VOLTAGE_MAX: 75k; DKPN: P13KBECT-ND; MOPN: 667-ERA-3ARW133V; RESISTANCE: 13k; TOLERANCE: 0.05%; DKPN: RT0603BRB0714KL-ND; MOPN: 603-RT0603BRB0714KL; RESISTANCE: 14k; VOLTAGE_CONTINUOUS: 37.4V; DKPN: 541-15.0STR-ND; MOPN: 71-CRCW060315R0FKEAH; RESISTANCE: 15; VOLTAGE_CONTINUOUS: 2.22V; DKPN: P150KDBCT-ND; MOPN: 667-ERA-3AEB154V; RESISTANCE: 150k; DKPN: P154KDBCT-ND; MOPN: 667-ERA-3AEB1543V; RESISTANCE: 154k; DKPN: P15KBDCT-ND; MOPN: 667-ERA-3ARB153V; RESISTANCE: 15k; VOLTAGE_CONTINUOUS: 38.73V; DKPN: 311-17.8KHRCT-ND; MOPN: 603-RC0603FR-0717K8L; RESISTANCE: 17.8k; VOLTAGE_CONTINUOUS: 42.19V; DKPN: 311-18.7KHRCT-ND; MOPN: 603-RC0603FR-0718K7L; RESISTANCE: 18.7k; VOLTAGE_CONTINUOUS: 43.24V; DKPN: 311-180HRCT-ND; MOPN: 603-RC0603FR-07180RL; RESISTANCE: 180; VOLTAGE_CONTINUOUS: 4.24V; DKPN: 1712-CPF-A-0603B1K0ETR-ND; MOPN: 279-CPF-A-0603B1K0E; POWER: 0.0625W; RESISTANCE: 1k; VOLTAGE_CONTINUOUS: 7.9V; DKPN: 311-1.00MHRCT-ND; MOPN: 603-RC0603FR-071ML; RESISTANCE: 1M; DKPN: 13-RT0805BRD072K18LTR-ND; MOPN: 603-RT0805BRD072K18L; POWER: 0.125W; RESISTANCE: 2.18k; VOLTAGE_CONTINUOUS: 16.51V; DKPN: 311-2.55KHRCT-ND; MOPN: 603-RC0603FR-072K55L; RESISTANCE: 2.55k; VOLTAGE_CONTINUOUS: 15.97V; DKPN: P20020CT-ND; MOPN: 667-ERJ-PB3B2741V; RESISTANCE: 2.74k; VOLTAGE_CONTINUOUS: 23.41V; DKPN: 311-20.0KHRTR-ND; MOPN: 603-RC0603FR-0720KL; POWER: 0.1 W; RESISTANCE: 20k; VOLTAGE_CONTINUOUS: 44.72V; DKPN: P19892CT-ND; MOPN: 667-ERJ-PB3B2100V; RESISTANCE: 210; VOLTAGE_CONTINUOUS: 6.48V; DKPN: P215KDBCT-ND; MOPN: 667-ERA-3AEB2153V; RESISTANCE: 215k; DKPN: 311-22.0HRCT-ND; MOPN: 603-RC0603FR-0722RL; RESISTANCE: 22; VOLTAGE_CONTINUOUS: 1.48V; DKPN: P22.1KDBCT-ND; MOPN: 667-ERA-3AEB2212V; RESISTANCE: 22.1k; VOLTAGE_CONTINUOUS: 47.01V; DKPN: 311-240HRCT-ND; MOPN: 603-RC0603FR-07240RL; RESISTANCE: 240; VOLTAGE_CONTINUOUS: 4.90V; DKPN: P255KDBCT-ND; MOPN: 667-ERA-3AEB2553V; RESISTANCE: 255k; DKPN: 10-ERJ-UP3F2001VTR-ND; MOPN: 667-ERJ-UP3F2001V; POWER: 0.25W; RESISTANCE: 2k; VOLTAGE_CONTINUOUS: 22.36V; DKPN: P3.3AJTR-ND; MOPN: 667-ERJ-3RQF3R3V; RESISTANCE: 3.3; VOLTAGE_CONTINUOUS: 0.57V; DKPN: YAG1651TR-ND; MOPN: 603-RT0603BRD073K32L; RESISTANCE: 3.32k; VOLTAGE_CONTINUOUS: 18.22V; DKPN: P20340TR-ND; MOPN: 667-ERJ-PB3D3301V; POWER: 0.3W; RESISTANCE: 3.3k; TOLERANCE: 0.5%; VOLTAGE_CONTINUOUS: 25.69V; VOLTAGE_MAX: 150; DKPN: 311-3.90KHRCT-ND; MOPN: 603-RC0603FR-073K9L; RESISTANCE: 3.9k; VOLTAGE_CONTINUOUS: 19.75V; DKPN: P20140CT-ND; MOPN: 667-ERJ-PB3B3092V; RESISTANCE: 30.9k; VOLTAGE_MAX: 200V; DKPN: P30KBDCT-ND; MOPN: 667-ERA-3ARB303V; RESISTANCE: 30k; VOLTAGE_CONTINUOUS: 54.77V; DKPN: P20144TR-ND; MOPN: 667-ERJ-PB3B3322V; RESISTANCE: 33.2k; VOLTAGE_CONTINUOUS: 57.61V; DKPN: P330KDBCT-ND; MOPN: 667-ERA-3AEB334V; RESISTANCE: 330k; DKPN: RHM33KAYTR-ND; MOPN: 755-KTR03EZPF3302; RESISTANCE: 33k; VOLTAGE_CONTINUOUS: 57.44V; VOLTAGE_MAX: 350V; DKPN: 311-36.5KHRCT-ND; MOPN: 603-RC0603FR-0736K5L; RESISTANCE: 36.5k; VOLTAGE_CONTINUOUS: 60.42V; DKPN: 311-360HRTR-ND; MOPN: 603-RC0603FR-07360RL; RESISTANCE: 360; VOLTAGE_CONTINUOUS: 6.00V; DKPN: RHM360KAYTR-ND; MOPN: 755-KTR03EZPF3603; RESISTANCE: 360k; VOLTAGE_CONTINUOUS: 189.74V; DKPN: 311-374KHRCT-ND; MOPN: 603-RC0603FR-07374KL; RESISTANCE: 374k; DKPN: 13-RT0603BRD0739RLTR-ND; MOPN: 603-RT0603BRD0739RL; RESISTANCE: 39; VOLTAGE_CONTINUOUS: 1.97V; DKPN: P4.12KDBCT-ND; MOPN: 667-ERA-3AEB4121V; RESISTANCE: 4.12k; VOLTAGE_CONTINUOUS: 20.30V; DKPN: 311-4.64KHRCT-ND; MOPN: 603-RC0603FR-074K64L; RESISTANCE: 4.64k; VOLTAGE_CONTINUOUS: 21.54V; DKPN: 311-402HRCT-ND; MOPN: 603-RC0603FR-07402RL; RESISTANCE: 402; VOLTAGE_CONTINUOUS: 6.34V; DKPN: P123000CT-ND; MOPN: 667-ERJ-1GNF41R2C; RESISTANCE: 41.2; DKPN: P20155CT-ND; MOPN: 667-ERJ-PB3B4122V; RESISTANCE: 41.2k; DKPN: 311-43.0KHRCT-ND; MOPN: 603-RC0603FR-0743KL; RESISTANCE: 43k; VOLTAGE_CONTINUOUS: 65.57V; DKPN: P470BYCT-ND; MOPN: 667-ERJ-PA3F4700V; RESISTANCE: 470; VOLTAGE_CONTINUOUS: 10.84V; DKPN: P16039TR-ND; MOPN: 667-ERJ-P03J5R1V; RESISTANCE: 5.1; VOLTAGE_CONTINUOUS: 1.13V; DKPN: 311-5.10KHRTR-ND; MOPN: 603-RC0603FR-075K1L; RESISTANCE: 5.1k; VOLTAGE_CONTINUOUS: 22.58V; DKPN: A124665CT-ND; MOPN: 279-RN73C1J5R49BTD; RESISTANCE: 5.49; DKPN: P20367CT-ND; MOPN: 667-ERJ-PB3D5491V; RESISTANCE: 5.49k; DKPN: P5.9KDBCT-ND; MOPN: 667-ERA-3AEB5901V; RESISTANCE: 5.9k; VOLTAGE_CONTINUOUS: 24.29V; DKPN: 13-RT0603BRE0750RLCT-ND; MOPN: 603-RT0603BRE0750RL; RESISTANCE: 50; VOLTAGE_CONTINUOUS: 2.24V; DKPN: RHM510KAYTR-ND; MOPN: 755-KTR03EZPF5103; RESISTANCE: 510k; VOLTAGE_CONTINUOUS: 225.83V; DKPN: 311-60.4HRCT-ND; MOPN: 603-RC0603FR-0760R4L; RESISTANCE: 60.4; VOLTAGE_CONTINUOUS: 2.48V; DKPN: 311-620HRCT-ND; MOPN: 603-RC0603FR-07620RL; RESISTANCE: 620; VOLTAGE_CONTINUOUS: 7.87V; DKPN: P73.2KDBCT-ND; MOPN: 667-ERA-3AEB7322V; RESISTANCE: 73.2k; DKPN: RT0603BRE0775KL-ND; MOPN: 603-RT0603BRE0775KL; DKPN: 764-1461-2-ND; MOPN: 71-PTN0603E8351BST1; POWER: 0.15W; RESISTANCE: 8.35k; VOLTAGE_CONTINUOUS: 28.90V; DKPN: YAG4603TR-ND; MOPN: 603-RT0603BRD078K66L; RESISTANCE: 8.66k; VOLTAGE_CONTINUOUS: 29.43V; DKPN: P84.5KDBCT-ND; MOPN: 667-ERA-3AEB8452V; RESISTANCE: 84.5k; DKPN: P20197CT-ND; MOPN: 667-ERJ-PB3B9312V; RESISTANCE: 93.1k; VOLTAGE_CONTINUOUS: 136V; RESISTANCE: DNP; DKPN: RHM3.3KAYTR-ND; MOPN: 755-KTR03EZPF3301; VOLTAGE_CONTINUOUS: 18.17V; DKPN: RHM75KAYTR-ND; MOPN: 755-KTR03EZPF7502; RESISTANCE: 750k; VOLTAGE_CONTINUOUS: 273.86V; DKPN: RHM750KAYTR-ND; MOPN: 755-KTR03EZPF7503; VOLTAGE_CONTINUOUS: 86.60V; SymbolName_1: RESISTOR; LibraryName: HyTechDevices; Package: 0603-RES; VOLTAGE_MAX: 75V; MANUFACTURER: Vishay Dale; MANUFACTURER: YAGEO; VOLTAGE_CONTINUOUS: 150V; VOLTAGE_CONTINUOUS: 50V; RESISTANCE: 75k
footprint 0603-RES
pins: 1, 2

## RESISTOR_?_*0805
designator R?, comment Resistor  PWR163 Series  AC Series    PU Series  ERA Series  PWR263 Series  KTR Series  RC Series  ERJ PB3, PB6 Series  ERJ  PA2, P03, PA3, P06, P08, P14 Series  B20 Series  TE Connectivity/Holsworthy RN73 Series  Vishay Dale D/CRCW e3  Ohmite B20  (value not drawn)
MANUFACTURER: Yageo; MPN: RL0805FR-070R62L; MANUFACTURER: Panasonic Electronic Components; MPN: ERJ-6RQF1R0V; MPN: ERJ-6ENF12R4V; MPN: ERJ-PB6B1242V; MPN: ERJ-6ENF1432V; MPN: ERJ-6ENF1912V; MPN: ERJ-P06J102V; MPN: ERJ-PB6B1004V; MPN: RC0805FR-07200RL; MPN: ERJ-P06F22R0V; MPN: CRCW060331K6FKEAHP; MPN: ERJ-P06J360V; MPN: ERJ-PB6B3653V; MPN: ERJ-6DQJ5R1V; MPN: ERJ-PB3B5902V; MPN: ERJ-PB6B5233V; MPN: ERJ-P06D56R0V; MPN: ERJ-PB6B9313V; MPN: ERJ-6ENF9533V; MPN: ERJ-PB6B9763V; MANUFACTURER: Rohm Semiconductor; MPN: KTR10EZPF1004; MPN: KTR10EZPF3303; MANUFACTURER: Rohm; MPN: KTR10EZPF3653; MPN: KTR10EZPF7502; GateName_1: G$1; DeviceName: 0805; DeviceSetName: RESISTOR_?_*; DKPN: 311-.62SCT-ND; MOPN: 603-RL0805FR-070R62L; POWER: 0.125W; RESISTANCE: 0.62; TOLERANCE: 1%; VOLTAGE_CONTINUOUS: 0.28V; VOLTAGE_MAX: 0.70V; DKPN: P1.0DTR-ND; MOPN: 667-ERJ-6RQF1R0V; RESISTANCE: 1; VOLTAGE_CONTINUOUS: 0.35V; VOLTAGE_MAX: 150V; DKPN: P12.4CTR-ND; MOPN: 667-ERJ-6ENF12R4V; POWER: .125W; RESISTANCE: 12.4; VOLTAGE_CONTINUOUS: 1.24V; DKPN: P20718CT-ND; MOPN: 667-ERJ-PB6B1242V; POWER: 0.25W; RESISTANCE: 12.4k; TOLERANCE: 0.1%; VOLTAGE_CONTINUOUS: 55.68V; DKPN: P14.3KCCT-ND; MOPN: 667-ERJ-6ENF1432V; RESISTANCE: 14.3k; VOLTAGE_MAX: 200V; DKPN: P19.1KCCT-ND; MOPN: 667-ERJ-6ENF1912V; RESISTANCE: 19.1k; DKPN: P1.0KADTR-ND; MOPN: 667-ERJ-P06J102V; POWER: 0.5W; RESISTANCE: 1k; TOLERANCE: 5%; VOLTAGE_CONTINUOUS: 22.36V; VOLTAGE_MAX: 400V; DKPN: P20936TR-ND; MOPN: 667-ERJ-PB6B1004V; RESISTANCE: 1M; DKPN: 311-200CRCT-ND; MOPN: 603-RC0805FR-07200RL; RESISTANCE: 200; VOLTAGE_CONTINUOUS: 5V; DKPN: P16066TR-ND; MOPN: 667-ERJ-P06F22R0V; RESISTANCE: 22; VOLTAGE_CONTINUOUS: 3.32V; DKPN: 541-31.6KSCT-ND; MOPN: 71-CRCW060331K6FKEAH; POWER: 0.33W; RESISTANCE: 31.6k; DKPN: P36ADTR-ND; MOPN: 667-ERJ-P06J360V; RESISTANCE: 36; VOLTAGE_CONTINUOUS: 4.243V; DKPN: P20885CT-ND; MOPN: 667-ERJ-PB6B3653V; RESISTANCE: 365k; DKPN: P19237TR-ND; MOPN: 667-ERJ-6DQJ5R1V; RESISTANCE: 5.1; VOLTAGE_CONTINUOUS: 1.597V; DKPN: P20174TR-ND; MOPN: 667-ERJ-PB3B5902V; POWER: 0.2W; RESISTANCE: 5.9k; VOLTAGE_CONTINUOUS: 34.3V; DKPN: P20904TR-ND; MOPN: 667-ERJ-PB6B5233V; RESISTANCE: 523k; DKPN: P16053TR-ND; MOPN: 667-ERJ-P06D56R0V; RESISTANCE: 56; VOLTAGE_CONTINUOUS: 5.29V; DKPN: P20933CT-ND; MOPN: 667-ERJ-PB6B9313V; RESISTANCE: 931k; DKPN: P953KCCT-ND; MOPN: 667-ERJ-6ENF9533V; RESISTANCE: 953k; DKPN: P20935TR-ND; MOPN: 667-ERJ-PB6B9763V; RESISTANCE: 976k; DKPN: RHM1.00MAHTR-ND; MOPN: 755-KTR10EZPF1004; VOLTAGE_CONTINUOUS: 353.5V; DKPN: RHM330KAHTR-ND; MOPN: 755-KTR10EZPF3303; RESISTANCE: 330k; VOLTAGE_CONTINUOUS: 203.1V; DKPN: RHM365KAHTR-ND; MOPN: 755-KTR10EZPF3653; VOLTAGE_CONTINUOUS: 213V; VOLTAGE_MAX: 350V; DKPN: RHM75KAHTR-ND; MOPN: 755-KTR10EZPF7502; RESISTANCE: 75k; VOLTAGE_CONTINUOUS: 96.8V; SymbolName_1: RESISTOR; LibraryName: HyTechDevices; Package: 0805-RES; VOLTAGE_CONTINUOUS: 150V; MANUFACTURER: Vishay Dale
footprint 0805-RES
pins: 1, 2

## RESISTOR_?_*3921
designator R?, comment Resistor  PWR163 Series  AC Series    PU Series  ERA Series  PWR263 Series  KTR Series  RC Series  ERJ PB3, PB6 Series  ERJ  PA2, P03, PA3, P06, P08, P14 Series  B20 Series  TE Connectivity/Holsworthy RN73 Series  Vishay Dale D/CRCW e3  Ohmite B20  (value not drawn)
MANUFACTURER: Yageo; MPN: PU3921FKMP50R001L; GateName_1: G$1; DeviceName: 3921; DeviceSetName: RESISTOR_?_*; DKPN: YAG6126CT-ND; MOPN: 603-U3921FKMP50R001L; POWER: 5W; RESISTANCE: 1mΩ; TOLERANCE: 1%; VOLTAGE_CONTINUOUS: 0.07V; SymbolName_1: RESISTOR; LibraryName: HyTechDevices; Package: 3921; VOLTAGE_MAX: 0.07V
footprint 3921
pins: 1, 2

## RESISTOR_?_*B20
designator R?, comment Resistor  PWR163 Series  AC Series    PU Series  ERA Series  PWR263 Series  KTR Series  RC Series  ERJ PB3, PB6 Series  ERJ  PA2, P03, PA3, P06, P08, P14 Series  B20 Series  TE Connectivity/Holsworthy RN73 Series  Vishay Dale D/CRCW e3  Ohmite B20  (value not drawn)
MPN: B20J1K5E; MPN: B20J10KE; MPN: B20J15KE; MPN: B20J750E; GateName_1: G$1; DeviceSetName: RESISTOR_?_*; DKPN: B20J1K5E-ND; MOPN: 588-B20J1K5E; POWER: 20W; RESISTANCE: 1.5K; TOLERANCE: 5%; VOLTAGE_CONTINUOUS: 173V; VOLTAGE_MAX: 750V; DKPN: B20J10KE-ND; MOPN: 588-B20J10KE; RESISTANCE: 10k; VOLTAGE_CONTINUOUS: 447V; DKPN: B20J15KE-ND; MOPN: 588-B20J15KE; RESISTANCE: 15K; VOLTAGE_CONTINUOUS: 548V; DKPN: B20J750E-ND; MOPN: 588-B20J750E; RESISTANCE: 750; VOLTAGE_CONTINUOUS: 122V; SymbolName_1: RESISTOR; DeviceName: B20; LibraryName: HyTechDevices; Package: B20; MANUFACTURER: Ohmite
footprint B20
pins: 1, 2

## RESISTOR_?_*B20-SHORTENED
designator R?, comment Resistor  PWR163 Series  AC Series    PU Series  ERA Series  PWR263 Series  KTR Series  RC Series  ERJ PB3, PB6 Series  ERJ  PA2, P03, PA3, P06, P08, P14 Series  B20 Series  TE Connectivity/Holsworthy RN73 Series  Vishay Dale D/CRCW e3  Ohmite B20  (value not drawn)
MPN: B20J1K5E; MPN: B20J15KE; GateName_1: G$1; DeviceName: B20-SHORTENED; DeviceSetName: RESISTOR_?_*; DKPN: B20J1K5E-ND; MOPN: 588-B20J1K5E; POWER: 20W; RESISTANCE: 1.5K; TOLERANCE: 5%; VOLTAGE_CONTINUOUS: 173V; VOLTAGE_MAX: 750V; DKPN: B20J15KE-ND; MOPN: 588-B20J15KE; RESISTANCE: 15K; VOLTAGE_CONTINUOUS: 548V; SymbolName_1: RESISTOR; LibraryName: HyTechDevices; Package: B20-SHORTENED; MANUFACTURER: Ohmite
footprint B20-SHORTENED
pins: 1, 2

## RESISTOR_?_*PWR163
designator R?, comment Resistor  PWR163 Series  AC Series    PU Series  ERA Series  PWR263 Series  KTR Series  RC Series  ERJ PB3, PB6 Series  ERJ  PA2, P03, PA3, P06, P08, P14 Series  B20 Series  TE Connectivity/Holsworthy RN73 Series  Vishay Dale D/CRCW e3  Ohmite B20  (value not drawn)
MANUFACTURER: Bourns Inc.; MPN: PWR163S-25-5R00FE; GateName_1: G$1; DeviceSetName: RESISTOR_?_*; DKPN: PWR163S-25-5R00FECT-ND; MOPN: 652-PWR163S255R00FE; POWER: 2.8W; RESISTANCE: 5; TOLERANCE: 1%; VOLTAGE_CONTINUOUS: 3.741V; SymbolName_1: RESISTOR; DeviceName: PWR163; LibraryName: HyTechDevices; Package: PWR163; VOLTAGE_MAX: 3.741V
footprint PWR163
pins: 1, 2

## RESISTOR_?_*PWR263
designator R?, comment Resistor  PWR163 Series  AC Series    PU Series  ERA Series  PWR263 Series  KTR Series  RC Series  ERJ PB3, PB6 Series  ERJ  PA2, P03, PA3, P06, P08, P14 Series  B20 Series  TE Connectivity/Holsworthy RN73 Series  Vishay Dale D/CRCW e3  Ohmite B20  (value not drawn)
MANUFACTURER: Bourns Inc.; MPN: PWR263S-35-5R00F; MPN: PWR263S-35-7R50J; GateName_1: G$1; DeviceSetName: RESISTOR_?_*; DKPN: PWR263S-35-5R00F-ND; MOPN: 652-PWR263S355R00F; POWER: 3.5W; RESISTANCE: 5; TOLERANCE: 1%; VOLTAGE_CONTINUOUS: 4.183V; DKPN: PWR263S-35-7R50J-ND; MOPN: 652-PWR263S357R50J; RESISTANCE: 7.5; TOLERANCE: 5%; VOLTAGE_CONTINUOUS: 5.123V; SymbolName_1: RESISTOR; DeviceName: PWR263; LibraryName: HyTechDevices; Package: PWR263; VOLTAGE_MAX: 4.183V; VOLTAGE_MAX: 5.123V
footprint PWR263
pins: 1, 2

## RESISTOR_NETWORK_4_*
designator RN?, comment Resistor Network, 4 Elements  YC/TC Series  CAT/CAY 16 Series  (value not drawn)
MANUFACTURER: Bourns Inc.; MPN: CAT16-100J4LF; MPN: CAT16-1000F4LF; MANUFACTURER: Yageo; MPN: TC164-FR-0710KL; MPN: YC164-JR-07160RL; MPN: YC164-FR-071KL; MPN: CAT16-2702F4LF; GateName_1: A; GateName_2: B; GateName_3: C; GateName_4: D; DeviceSetName: RESISTOR_NETWORK_4_*; DKPN: CAT16-100J4LFCT-ND; MOPN: 652-CAT16-100J4LF; POWER: 1/16W; RESISTANCE: 10; TOLERANCE: 5%; VOLTAGE: 50V; DKPN: CAT16-1000F4LFCT-ND; MOPN: 652-CAT16-1000F4LF; RESISTANCE: 100; TOLERANCE: 1%; DKPN: YAG3410CT-ND; MOPN: 603-TC164-FR-0710KL; RESISTANCE: 10K; DKPN: YC164J-160CT-ND; MOPN: 603-YC164-JR-07160RL; RESISTANCE: 160; DKPN: 13-YC164-FR-071KLCT-ND; MOPN: 603-YC164-FR-071KL; RESISTANCE: 1k; DKPN: CAT16-2702F4LFCT-ND; MOPN: 652-CAT16-2702F4LF; RESISTANCE: 27K; SymbolName_1: RESISTOR; SymbolName_2: RESISTOR; SymbolName_3: RESISTOR; SymbolName_4: RESISTOR; LibraryName: HyTechDevices; Package: 1206-RES-ARRAY
footprint 1206-RES-ARRAY
part A pins: 1, 8 2
part B pins: 2 1, 7 2
part C pins: 3 1, 6 2
part D pins: 4 1, 5 2

## RESISTOR_NETWORK_4_*_1
designator RN?, comment Resistor Network, 4 Elements  YC/TC Series  CAT/CAY 16 Series  (value not drawn)
MANUFACTURER: Bourns Inc.; MPN: CAT16-100J4LF; MPN: CAT16-1000F4LF; MANUFACTURER: Yageo; MPN: TC164-FR-0710KL; MPN: YC164-JR-07160RL; MPN: YC164-FR-071KL; MPN: CAT16-2702F4LF; GateName_1: A; GateName_2: B; GateName_3: C; GateName_4: D; DeviceSetName: RESISTOR_NETWORK_4_*; DKPN: CAT16-100J4LFCT-ND; MOPN: 652-CAT16-100J4LF; POWER: 1/16W; RESISTANCE: 10; TOLERANCE: 5%; VOLTAGE: 50V; DKPN: CAT16-1000F4LFCT-ND; MOPN: 652-CAT16-1000F4LF; RESISTANCE: 100; TOLERANCE: 1%; DKPN: YAG3410CT-ND; MOPN: 603-TC164-FR-0710KL; RESISTANCE: 10K; DKPN: YC164J-160CT-ND; MOPN: 603-YC164-JR-07160RL; RESISTANCE: 160; DKPN: 13-YC164-FR-071KLCT-ND; MOPN: 603-YC164-FR-071KL; RESISTANCE: 1k; DKPN: CAT16-2702F4LFCT-ND; MOPN: 652-CAT16-2702F4LF; RESISTANCE: 27K; SymbolName_1: RESISTOR; SymbolName_2: RESISTOR; SymbolName_3: RESISTOR; SymbolName_4: RESISTOR; LibraryName: HyTechDevices; Package: 1206-RES-ARRAY
footprint 1206-RES-ARRAY
part A pins: 1, 8 2
part B pins: 2 1, 7 2
part C pins: 3 1, 6 2
part D pins: 4 1, 5 2